# Altium schematic symbol library MCx.SchLib: 66 symbols (part 1 of 3)
Pins are listed as number, name and electrical type; pins without a type are passive.

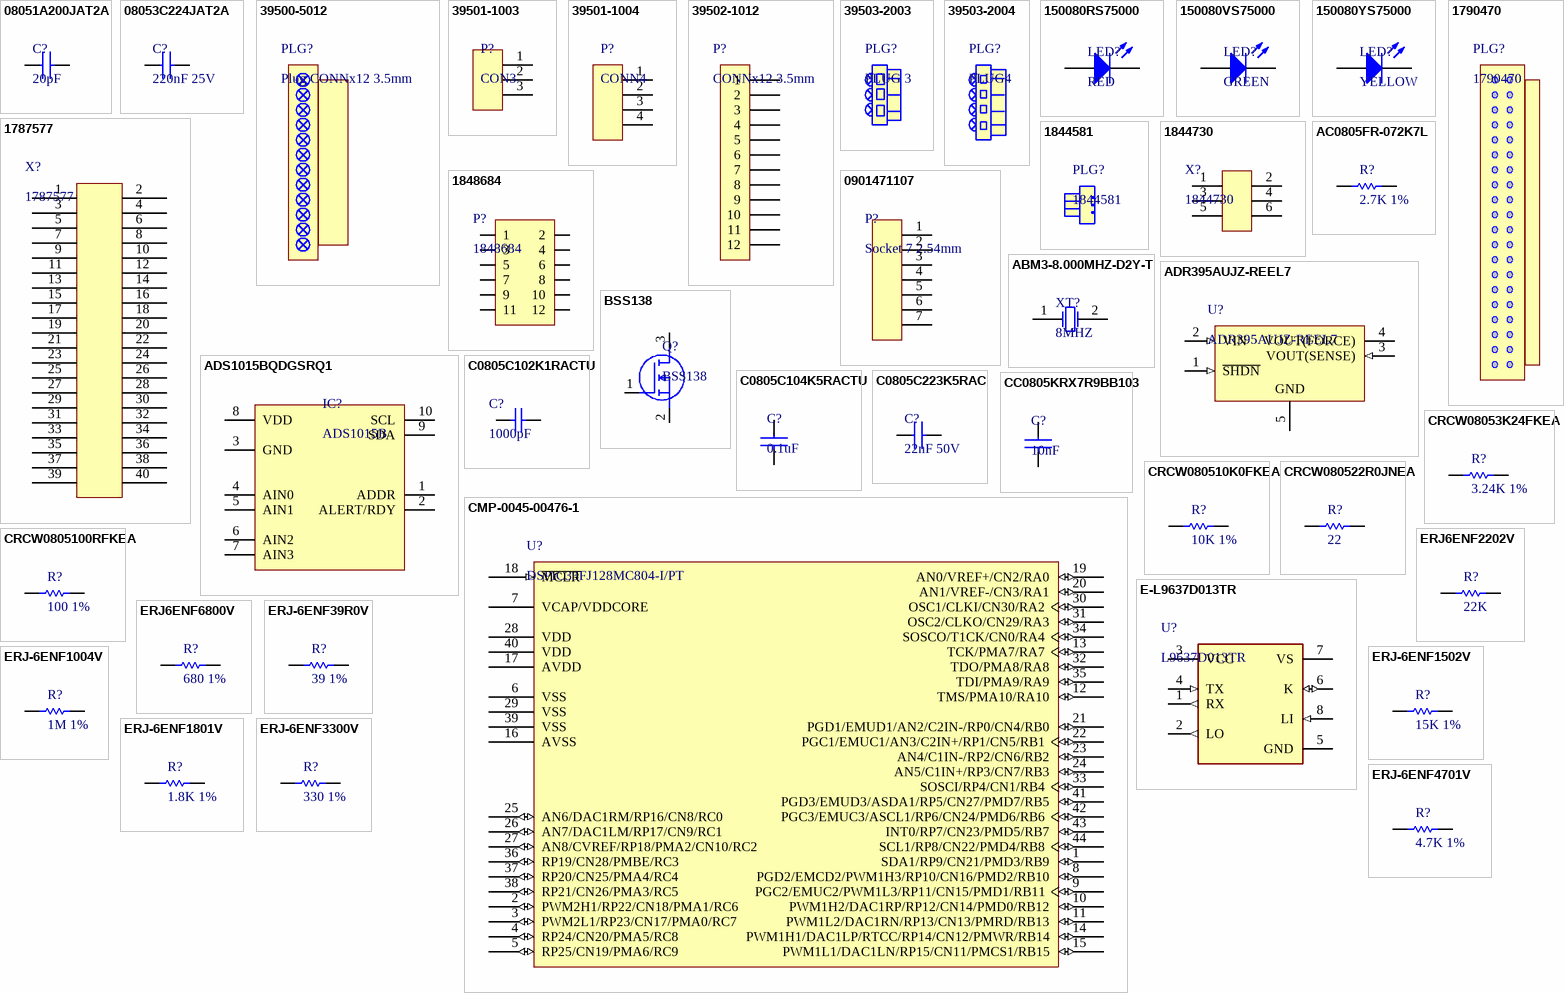
[diagram p0: symbols 08051A200JAT2A to ERJ-6ENF4701V]

## 08051A200JAT2A
designator C?, comment 20pF
AVX - 08051A200JAT2A - CERAMIC CAPACITOR 20PF 100V, C0G, 5%, 0805, FULL REEL; Manufacturer: Kyocera AVX; Dissipation Factor: 10%; Temperature Coefficient: 30ppm/°C; Supplier 1: Mouser; Supplier Part Number 1: 581-08051A200JAT2A; Manufacturer Part Number: 08051A200JAT2A; RoHS: Yes; Category: Ceramic Capacitors; Stock 1: 29281; Pricing 1: 1=0.29000, 10=0.19900, 100=0.10000, 500=0.06900, 1000=0.06100, 2000=0.06100 (USD); Mount: Surface Mount,PCB; Case/Package: 0805; Number of Pins: 2; Case Code (Imperial): 0805; Case Code (Metric): 2012; Contact Plating: Tin,Matte; Min Operating Temperature: -55°C; Max Operating Temperature: 125°C; Capacitance: 20pF; Packaging: Tape and Reel; Voltage Rating: 100V; Package Quantity: 1; Tolerance: 5%; Voltage Rating (DC): 100V; Dielectric: C0G; Termination: SMD/SMT; Voltage: 100V; Length: 2.01mm; Height: 940um; Width: 1.25mm; Thickness: 0.037inch; Depth: 1.25mm; Radiation Hardening: No; Lead Free: Lead Free; REACH SVHC: No SVHC; ComponentLink1URL: https://datasheet.ciiva.com/11787/0900766b80def0e2-11787350.pdf?src-supplier=RSComponents; ComponentLink1Description: https://datasheet.ciiva.com/11787/0900766b80def0e2-11787350.pdf?src-supplier=RSComponents; ComponentLink2URL: https://datasheet.ciiva.com/26927/getdatasheetpartid-58326-26927326.pdf?src-supplier=Verical; ComponentLink2Description: https://datasheet.ciiva.com/26927/getdatasheetpartid-58326-26927326.pdf?src-supplier=Verical; ComponentLink3URL: https://datasheet.ciiva.com/11536/ccog-11536935.pdf?src-supplier=Avnet; ComponentLink3Description: https://datasheet.ciiva.com/11536/ccog-11536935.pdf?src-supplier=Avnet; ComponentLink4URL: https://datasheet.ciiva.com/151/ccog-151320.pdf?src-supplier=Digi-Key; ComponentLink4Description: https://datasheet.ciiva.com/151/ccog-151320.pdf?src-supplier=Digi-Key; ComponentLink5URL: https://datasheet.ciiva.com/151/ccog-151321.pdf?src-supplier=Digi-Key; ComponentLink5Description: https://datasheet.ciiva.com/151/ccog-151321.pdf?src-supplier=Digi-Key; ComponentLink6URL: https://datasheet.ciiva.com/28535/759117-28535065.pdf?src-supplier=Element14; ComponentLink6Description: https://datasheet.ciiva.com/28535/759117-28535065.pdf?src-supplier=Element14; ComponentLink7URL: https://datasheet.ciiva.com/151/ccog-151322.pdf?src-supplier=Digi-Key; ComponentLink7Description: https://datasheet.ciiva.com/151/ccog-151322.pdf?src-supplier=Digi-Key; ComponentLink8URL: https://datasheet.ciiva.com/14606/70001039-14606635.pdf?src-supplier=Allied+Electronics; ComponentLink8Description: https://datasheet.ciiva.com/14606/70001039-14606635.pdf?src-supplier=Allied+Electronics; ComponentLink9URL: https://datasheet.ciiva.com/14595/70001039-14595420.pdf?src-supplier=Allied+Electronics; ComponentLink9Description: https://datasheet.ciiva.com/14595/70001039-14595420.pdf?src-supplier=Allied+Electronics; ComponentLink10URL: https://datasheet.ciiva.com/2987/ccog-2987917.pdf?src-supplier=Avnet; ComponentLink10Description: https://datasheet.ciiva.com/2987/ccog-2987917.pdf?src-supplier=Avnet; ComponentLink11URL: https://datasheet.ciiva.com/17492/ccog-17492879.pdf?src-supplier=Avnet+Europe; ComponentLink11Description: https://datasheet.ciiva.com/17492/ccog-17492879.pdf?src-supplier=Avnet+Europe
footprint C0805
pins: 1, 2

## 08053C224JAT2A
designator C?, comment 220nF 25V
AVX - 08053C224JAT2A - SMD Multilayer Ceramic Capacitor, 0.22 UF, 5%, X7R, 25 V, 0805 [2012 Metric] RoHS Compliant: Yes; Manufacturer: Kyocera AVX; Supplier 1: Mouser; Supplier Part Number 1: 581-08053C224JAT2A; Manufacturer Part Number: 08053C224JAT2A; RoHS: Yes; Category: Ceramic Capacitors; Stock 1: 712; Pricing 1: 1=0.28000, 10=0.19000, 100=0.09600, 500=0.09400, 1000=0.09400, 2000=0.09400 (USD); Mount: Surface Mount,PCB; Case/Package: 0805; Number of Pins: 2; Case Code (Imperial): 0805; Case Code (Metric): 2012; Dielectric Material: Ceramic; Contact Plating: Tin,Matte; Min Operating Temperature: -55°C; Max Operating Temperature: 125°C; Capacitance: 220nF; Tolerance: 5%; Packaging: Tape and Reel; Dielectric: X7R; Voltage Rating: 25V; Voltage Rating (DC): 25V; Termination: SMD/SMT; Package Quantity: 1; Voltage: 25V; Length: 2.01mm; Height: 1.4mm; Width: 1.25mm; Depth: 1.25mm; Thickness: 0.055inch; Radiation Hardening: No; REACH SVHC: No SVHC; Lead Free: Lead Free; ComponentLink1URL: https://datasheet.ciiva.com/5417/cx7r-218113-5417493.pdf?src-supplier=Mouser; ComponentLink1Description: https://datasheet.ciiva.com/5417/cx7r-218113-5417493.pdf?src-supplier=Mouser; ComponentLink2URL: https://datasheet.ciiva.com/16326/cx7r-16326599.pdf?src-supplier=Future+Electronics; ComponentLink2Description: https://datasheet.ciiva.com/16326/cx7r-16326599.pdf?src-supplier=Future+Electronics; ComponentLink3URL: https://datasheet.ciiva.com/162/cx7r-162344.pdf?src-supplier=Digi-Key; ComponentLink3Description: https://datasheet.ciiva.com/162/cx7r-162344.pdf?src-supplier=Digi-Key; ComponentLink4URL: https://datasheet.ciiva.com/162/cx7r-162345.pdf?src-supplier=Digi-Key; ComponentLink4Description: https://datasheet.ciiva.com/162/cx7r-162345.pdf?src-supplier=Digi-Key; ComponentLink5URL: https://datasheet.ciiva.com/162/cx7r-162346.pdf?src-supplier=Digi-Key; ComponentLink5Description: https://datasheet.ciiva.com/162/cx7r-162346.pdf?src-supplier=Digi-Key; ComponentLink6URL: https://datasheet.ciiva.com/17494/cx7r-17494874.pdf?src-supplier=Avnet+Europe; ComponentLink6Description: https://datasheet.ciiva.com/17494/cx7r-17494874.pdf?src-supplier=Avnet+Europe; ComponentLink7URL: https://datasheet.ciiva.com/14594/70001075-14594669.pdf?src-supplier=Allied+Electronics; ComponentLink7Description: https://datasheet.ciiva.com/14594/70001075-14594669.pdf?src-supplier=Allied+Electronics; ComponentLink8URL: https://datasheet.ciiva.com/7811/cx7r-7811999.pdf?src-supplier=Element14; ComponentLink8Description: https://datasheet.ciiva.com/7811/cx7r-7811999.pdf?src-supplier=Element14
footprint C0805
pins: 1, 2

## 39500-5012
designator PLG?, comment Plug CONNx12 3.5mm  (mechanical)
Pluggable Terminal Blocks 3.5MM EURO PLUG RA G RO PLUG RA GRN 12CKT; Manufacturer: Molex; Manufacturer Part Number: 39500-5012; Current Rating: 8A; Voltage Rating: 300V; Wire Gauge (Max): 16AWG; Wire Gauge (Min): 24AWG; Supplier 1: Mouser; Supplier Part Number 1: 538-39500-5012; RoHS: Yes; Category: Terminal Blocks; Stock 1: 720; Pricing 1: 1=3.85000, 10=3.40000, 25=2.85000, 100=2.67000, 250=2.46000, 500=2.22000 (USD); Packaging: Bulk; Package Quantity: 320; ComponentLink1URL: https://datasheet.ciiva.com/5198/0395005012-terminal-blocks-163596-5198853.pdf?src-supplier=Mouser; ComponentLink1Description: https://datasheet.ciiva.com/5198/0395005012-terminal-blocks-163596-5198853.pdf?src-supplier=Mouser

## 39501-1003
designator P?, comment CON3
TERM BLOCK HDR 3POS VERT 3.5MM; Manufacturer: Molex; Manufacturer Part Number: 39501-1003; Number of Positions Per Level: 3; Number of Levels: 1; Current: 8A; Voltage: 300V; Gender: Male; Connector Type: Terminal Block; Wire Gauge (Max): 2AWG; Wire Gauge (Min): 20AWG; Supplier 1: Mouser; Supplier Part Number 1: 538-39501-1003; RoHS: Yes; Category: Terminal Blocks; Stock 1: 4825; Pricing 1: 1=0.78000, 10=0.67600, 100=0.59400, 500=0.48500, 1000=0.43200, 2500=0.41900 (USD); Mount: Through Hole; Contact Material: Brass; Color: Black; Housing Color: Black; Contact Plating: Tin; Housing Material: Nylon; Min Operating Temperature: -40°C; Max Operating Temperature: 105°C; Packaging: Bulk; Number of Rows: 1; Termination: Solder; Number of Positions: 3; Orientation: Vertical; Voltage Rating: 300V; Package Quantity: 1; Current Rating: 8A; Max Voltage Rating (AC): 300V; Number of Circuits: 3; Number of Contacts: 3; Length: 11.9mm; Pitch: 3.5mm; Width: 6.9mm; ELV: Compliant; Lead Free: Lead Free; Flammability Rating: UL94 V-0; REACH SVHC: Unknown; Halogen Free: Low Halogen; ComponentLink1URL: https://datasheet.ciiva.com/796/395011002-sd-796514.pdf?src-supplier=Digi-Key; ComponentLink1Description: https://datasheet.ciiva.com/796/395011002-sd-796514.pdf?src-supplier=Digi-Key
footprint 39501-1003 (Header 3x3.5mm Molex)
pins: 1, 2, 3

## 39501-1004
designator P?, comment CONN4
3.50mm Pitch Eurostyle Vertical PCB Header, 4 Circuits; Manufacturer: Molex; Manufacturer Part Number: 39501-1004; Gender: Male; Number of Positions: 4; Max Voltage Rating (AC): 300V; Current Rating: 8A; Pitch: 3.5mm; Wire Gauge (Max): 2AWG; Wire Gauge (Min): 20AWG; Supplier 1: Mouser; Supplier Part Number 1: 538-39501-1004; RoHS: Yes; Category: Headers and Wire Housings; Stock 1: 8482; Pricing 1: 1=1.07000, 10=0.90800, 100=0.77600, 500=0.66500, 1000=0.59200, 2500=0.52800 (USD); Mount: Through Hole; Contact Material: Brass; Housing Color: Black; Color: Black; Housing Material: Nylon; Min Operating Temperature: -40°C; Max Operating Temperature: 105°C; Number of Rows: 1; Orientation: Vertical; Termination: Through Hole; Packaging: Bulk; Number of Contacts: 4; Number of Circuits: 4; Package Quantity: 960; Voltage Rating: 300V; Length: 15.4mm; Width: 6.9mm; REACH SVHC: No SVHC; ELV: Compliant; Halogen Free: Low Halogen; Lead Free: Lead Free; Flammability Rating: UL94 V-0; ComponentLink1URL: https://datasheet.ciiva.com/5191/0395011004-terminal-blocks-163561-5191496.pdf?src-supplier=Mouser; ComponentLink1Description: https://datasheet.ciiva.com/5191/0395011004-terminal-blocks-163561-5191496.pdf?src-supplier=Mouser; ComponentLink2URL: https://datasheet.ciiva.com/23766/395011010-sd-23766120.pdf?src-supplier=Newark; ComponentLink2Description: https://datasheet.ciiva.com/23766/395011010-sd-23766120.pdf?src-supplier=Newark
footprint 39501-1004 (Header 3x3.5mm Molex)
pins: 1, 2, 3, 4

## 39502-1012
designator P?, comment CONNx12 3.5mm
Conn Wire to Board HDR 12 POS 3.5mm Solder RA Thru-Hole; Manufacturer: Molex; Manufacturer Part Number: 39502-1012; Number of Positions: 12; Contact Resistance: 8mR; Insulation Resistance: 500MR; Current Rating: 8A; Voltage Rating: 300V; Supplier 1: Mouser; Supplier Part Number 1: 538-39502-1012; RoHS: Yes; Category: Headers and Wire Housings; Stock 1: 1266; Pricing 1: 1=2.75000, 10=2.40000, 100=2.12000, 250=2.07000, 500=1.57000, 1000=1.57000 (USD); Mount: Through Hole; Housing Material: Polyamide; Contact Material: Brass; Housing Color: Black; Color: Black; Contact Plating: Tin; Min Operating Temperature: -40°C; Max Operating Temperature: 105°C; Termination: Solder; Number of Contacts: 12; Orientation: Right Angle; Packaging: Bulk; Number of Rows: 1; Number of Circuits: 12; Package Quantity: 320; Length: 43.4mm; Height: 6.9mm; Pitch: 3.5mm; Width: 9.2mm; Flammability Rating: UL94 V-0; REACH SVHC: No SVHC; ELV: Compliant; Halogen Free: Low Halogen; Lead Free: Lead Free; ComponentLink1URL: https://datasheet.ciiva.com/5190/0395021012-terminal-blocks-163788-5190768.pdf?src-supplier=Mouser; ComponentLink1Description: https://datasheet.ciiva.com/5190/0395021012-terminal-blocks-163788-5190768.pdf?src-supplier=Mouser
footprint 39502-1012 H
pins: 1, 2, 3, 4, 5, 6, 7, 8, 9, 10, 11, 12

## 39503-2003
designator PLG?, comment PLUG 3  (mechanical)
Pluggable Terminal Blocks 3.50MM EURO PLUG VER UG VERT RWE BLK 3CKT; Manufacturer: Molex; Manufacturer Part Number: 39503-2003; Number of Positions: 3; Voltage Rating: 300V; Current Rating: 8A; Wire Gauge (Max): 16AWG; Wire Gauge (Min): 24AWG; Pitch: 3.5mm; Supplier 1: Mouser; Supplier Part Number 1: 538-39503-2003; RoHS: Yes; Category: Terminal Blocks; Stock 1: 602; Pricing 1: 1=1.13000, 10=0.67700, 100=0.56900, 500=0.53900, 1000=0.48000, 2500=0.42800 (USD); Mount: Cable; Min Operating Temperature: -40°C; Max Operating Temperature: 105°C; Package Quantity: 1280; Orientation: Straight; Number of Rows: 1; Number of Contacts: 3; Number of Circuits: 3; Termination: Screw; REACH SVHC: No SVHC; Halogen Free: Low Halogen; ComponentLink1URL: https://datasheet.ciiva.com/5191/0395032003-terminal-blocks-141279-5191499.pdf?src-supplier=Mouser; ComponentLink1Description: https://datasheet.ciiva.com/5191/0395032003-terminal-blocks-141279-5191499.pdf?src-supplier=Mouser

## 39503-2004
designator PLG?, comment PLUG4  (mechanical)
Conn Eurostyle Block F 4 POS 3.5mm Screw ST Cable Mount 8A/Contact; Manufacturer: Molex; Manufacturer Part Number: 0395032004; Number of Positions: 4; Number of Levels: 1; Current: 8A; Voltage: 300V; Wire Gauge (Max): 30AWG; Pitch: 0.138inch; Wire Gauge (Min): 16AWG; Supplier 1: Mouser; Supplier Part Number 1: 538-39503-2004; RoHS: Yes; Category: Terminal Blocks; Stock 1: 862; Pricing 1: 1=1.59000, 10=0.97100, 100=0.81600, 500=0.76500, 1000=0.68200, 2500=0.61400 (USD); Mount: Free Hanging,Cable; Color: Black; Contact Plating: Tin; Min Operating Temperature: -40°C; Max Operating Temperature: 115°C; Orientation: Straight; Packaging: Bulk; Number of Rows: 1; Number of Positions Per Level: 4; Package Quantity: 960; Termination: Screw; Number of Contacts: 4; Number of Circuits: 4; ComponentLink1URL: https://datasheet.ciiva.com/9387/0395032004-terminal-blocks-9387040.pdf?src-supplier=Avnet; ComponentLink1Description: https://datasheet.ciiva.com/9387/0395032004-terminal-blocks-9387040.pdf?src-supplier=Avnet; ComponentLink2URL: https://datasheet.ciiva.com/808/395032002-sd-808849.pdf?src-supplier=Digi-Key; ComponentLink2Description: https://datasheet.ciiva.com/808/395032002-sd-808849.pdf?src-supplier=Digi-Key

## 150080RS75000
designator LED?, comment RED
LED RED CLEAR 0805 SMD; Manufacturer: Wurth Electronics; Manufacturer Part Number: 150080RS75000; Luminous Intensity: 150mcd; Viewing Angle: 140°; Forward Voltage: 2V; Wavelength: 625nm; Lens Style: Clear,Rectangular; Forward Current: 30mA; Test Current: 20mA; Supplier 1: Mouser; Supplier Part Number 1: 710-150080RS75000; RoHS: Yes; Category: LEDs; Stock 1: 2434; Pricing 1: 1=0.18000, 10=0.17500, 25=0.17400, 50=0.16200, 100=0.13900, 250=0.12300 (USD); Mount: Surface Mount; Case/Package: 0805; Color: Red; Case Code (Metric): 2012; Case Code (Imperial): 0805; Min Operating Temperature: -40°C; Max Operating Temperature: 85°C; Package Quantity: 4000; Packaging: Tape and Reel; Dominant Wavelength: 625nm; Length: 2mm; Height: 0.7mm; Width: 1.25mm; REACH SVHC: Unknown; ComponentLink1URL: https://datasheet.ciiva.com/22656/150080rs75000-22656961.pdf?src-supplier=Element14; ComponentLink1Description: https://datasheet.ciiva.com/22656/150080rs75000-22656961.pdf?src-supplier=Element14; ComponentLink2URL: https://datasheet.ciiva.com/29279/759435-da-01-en-chipled-0805-w-kl-rot-150080rs75000-29279032.pdf?src-supplier=Conrad; ComponentLink2Description: https://datasheet.ciiva.com/29279/759435-da-01-en-chipled-0805-w-kl-rot-150080rs75000-29279032.pdf?src-supplier=Conrad
footprint LED0805
pins: 1 K, 2 A

## 150080VS75000
designator LED?, comment GREEN
LED GREEN CLEAR 0805 SMD; Manufacturer: Wurth Electronics; Manufacturer Part Number: 150080VS75000; Forward Voltage: 2V; Lens Style: Clear,Rectangular; Luminous Intensity: 40mcd; Forward Current: 30mA; Viewing Angle: 140°; Wavelength: 570nm; Test Current: 20mA; Supplier 1: Mouser; Supplier Part Number 1: 710-150080VS75000; RoHS: Yes; Category: LEDs; Stock 1: 16574; Pricing 1: 1=0.18000, 10=0.17500, 25=0.17400, 50=0.16200, 100=0.13900, 250=0.12300 (USD); Mount: Surface Mount; Case/Package: 0805; Color: Green; Case Code (Metric): 2012; Case Code (Imperial): 0805; Min Operating Temperature: -40°C; Max Operating Temperature: 85°C; Packaging: Tape and Reel; Dominant Wavelength: 570nm; Package Quantity: 4000; Length: 2mm; Height: 0.7mm; Width: 1.25mm; REACH SVHC: Unknown; ComponentLink1URL: https://datasheet.ciiva.com/22656/150080vs75000-22656966.pdf?src-supplier=Element14; ComponentLink1Description: https://datasheet.ciiva.com/22656/150080vs75000-22656966.pdf?src-supplier=Element14; ComponentLink2URL: https://datasheet.ciiva.com/29279/759437-da-01-en-chipled-0805-w-kl-h-gruen-150080vs7500-29279047.pdf?src-supplier=Conrad; ComponentLink2Description: https://datasheet.ciiva.com/29279/759437-da-01-en-chipled-0805-w-kl-h-gruen-150080vs7500-29279047.pdf?src-supplier=Conrad; ComponentLink3URL: https://datasheet.ciiva.com/29563/150080vs75000-29563018.pdf?src-supplier=Digi-Key; ComponentLink3Description: https://datasheet.ciiva.com/29563/150080vs75000-29563018.pdf?src-supplier=Digi-Key
footprint LED0805
pins: 1 K, 2 A

## 150080YS75000
designator LED?, comment YELLOW
LED YELLOW CLEAR 0805 SMD; Manufacturer: Wurth Electronics; Manufacturer Part Number: 150080YS75000; Forward Voltage: 2V; Luminous Intensity: 120mcd; Viewing Angle: 140°; Forward Current: 30mA; Lens Style: Clear,Rectangular; Dominant Wavelength: 590nm; Test Current: 20mA; Supplier 1: Mouser; Supplier Part Number 1: 710-150080YS75000; RoHS: Yes; Category: LEDs; Stock 1: 18730; Pricing 1: 1=0.18000, 10=0.17400, 25=0.17400, 50=0.16200, 100=0.13900, 250=0.12400 (USD); Mount: Surface Mount; Case/Package: 0805; Color: Yellow; Case Code (Metric): 2012; Case Code (Imperial): 0805; Min Operating Temperature: -40°C; Max Operating Temperature: 85°C; Packaging: Tape and Reel; Wavelength: 590nm; Package Quantity: 4000; Length: 2mm; Height: 0.7mm; Width: 1.25mm; REACH SVHC: Unknown; ComponentLink1URL: https://datasheet.ciiva.com/23843/150080ys75000-23843256.pdf?src-supplier=Newark; ComponentLink1Description: https://datasheet.ciiva.com/23843/150080ys75000-23843256.pdf?src-supplier=Newark; ComponentLink2URL: https://datasheet.ciiva.com/29279/759438-da-01-en-chipled-0805-w-kl-gelb-150080ys75000-29279034.pdf?src-supplier=Conrad; ComponentLink2Description: https://datasheet.ciiva.com/29279/759438-da-01-en-chipled-0805-w-kl-gelb-150080ys75000-29279034.pdf?src-supplier=Conrad; ComponentLink3URL: https://datasheet.ciiva.com/22656/1911353-22656971.pdf?src-supplier=Element14; ComponentLink3Description: https://datasheet.ciiva.com/22656/1911353-22656971.pdf?src-supplier=Element14; ComponentLink4URL: https://datasheet.ciiva.com/29563/150080ys75000-29563019.pdf?src-supplier=Digi-Key; ComponentLink4Description: https://datasheet.ciiva.com/29563/150080ys75000-29563019.pdf?src-supplier=Digi-Key; ComponentLink5URL: https://datasheet.ciiva.com/29563/150080ys75000-29563020.pdf?src-supplier=Digi-Key; ComponentLink5Description: https://datasheet.ciiva.com/29563/150080ys75000-29563020.pdf?src-supplier=Digi-Key; ComponentLink6URL: https://datasheet.ciiva.com/29563/150080ys75000-29563021.pdf?src-supplier=Digi-Key; ComponentLink6Description: https://datasheet.ciiva.com/29563/150080ys75000-29563021.pdf?src-supplier=Digi-Key
footprint LED0805
pins: 1 K, 2 A

## 1787577
designator X?
40 pins PCB header Phoenix Contact 1787577 Contact spacing: 3.50 mm; Current Rating: 8A; Connector Type: Plug; Number of Positions: 20; Number of Levels: 2; Voltage: 150V; Voltage Rating: 160V; Pitch: 0.138inch; Supplier 1: Mouser; Manufacturer: Phoenix Contact; Manufacturer Part Number: 1787577; RoHS: Yes; Category: Terminal Blocks; Stock 1: 89; Pricing 1: 1=14.81000, 10=14.41000, 25=14.04000, 50=13.46000, 100=12.39000, 250=11.45000 (USD); Mount: Through Hole; Contact Plating: Tin; Color: Black; Contact Material: Tin; Housing Color: Black; Package Quantity: 50; Packaging: Bulk; Number of Rows: 2; Termination: Solder; Number of Positions Per Level: 20; Current: 8A; Orientation: Vertical; Length: 10.6mm; Height: 12mm; Width: 77mm; ComponentLink1URL: https://datasheet.ciiva.com/817/1787577-817976.pdf?src-supplier=Digi-Key; ComponentLink1Description: https://datasheet.ciiva.com/817/1787577-817976.pdf?src-supplier=Digi-Key; ComponentLink2URL: https://datasheet.ciiva.com/29212/772230-da-01-de-grundgehaeuse-1787577-50-st-29212411.pdf?src-supplier=Conrad; ComponentLink2Description: https://datasheet.ciiva.com/29212/772230-da-01-de-grundgehaeuse-1787577-50-st-29212411.pdf?src-supplier=Conrad; Supplier Part Number 1: 651-1787577
footprint DMCV 1,5/20-G1F-3,5-LR P20THR (1787577  footprint)
pins: 1, 2, 3, 4, 5, 6, 7, 8, 9, 10, 11, 12, 13, 14, 15, 16, 17, 18, 19, 20, 21, 22, 23, 24, 25, 26, 27, 28, 29, 30, 31, 32, 33, 34, 35, 36, 37, 38, 39, 40

## 1790470
designator PLG?  (mechanical)
40 position; 8A; 250V; Push-in;Terminal block; PCB; Plug; Female Sockets;; Manufacturer: Phoenix Contact; Number of Positions: 40; Number of Positions Per Level: 20; Number of Levels: 2; Voltage: 150V; Voltage Rating: 160V; Connector Type: Screw; Pitch: 0.138inch; Wire Gauge (Max): 16AWG; Wire Gauge (Min): 24AWG; Supplier 1: Mouser; Supplier Part Number 1: 651-1790470; Manufacturer Part Number: 1790470; RoHS: Yes; Category: Terminal Blocks; Stock 1: 94; Pricing 1: 1=32.15000, 10=31.27000, 25=30.47000, 50=29.22000, 100=26.89000, 250=24.84000 (USD); Mount: Free Hanging; Color: Green; Contact Plating: Tin; Housing Color: Green; Housing Material: Plastic; Package Quantity: 1; Termination: Screwless; Current: 8A; Current Rating: 8A; Packaging: Bulk; ComponentLink1URL: https://datasheet.ciiva.com/15056/1790470-15056229.pdf?src-supplier=Digi-Key; ComponentLink1Description: https://datasheet.ciiva.com/15056/1790470-15056229.pdf?src-supplier=Digi-Key; ComponentLink2URL: https://datasheet.ciiva.com/14913/1790470-14913096.pdf?src-supplier=Arrow+Electronics; ComponentLink2Description: https://datasheet.ciiva.com/14913/1790470-14913096.pdf?src-supplier=Arrow+Electronics; ComponentLink3URL: https://datasheet.ciiva.com/818/1790470-818583.pdf?src-supplier=Digi-Key; ComponentLink3Description: https://datasheet.ciiva.com/818/1790470-818583.pdf?src-supplier=Digi-Key

## 1844581
designator PLG?  (mechanical)
Terminal block; plug; 6 positions; 0.100"(2.54mm) pitch; Screwless; 6A; 150V; Black; Manufacturer: Phoenix Contact; Number of Positions: 6; Number of Positions Per Level: 3; Number of Levels: 2; Pitch: 0.1inch; Wire Gauge (Max): 26AWG; Wire Gauge (Min): 20AWG; Supplier 1: Mouser; Supplier Part Number 1: 651-1844581; Manufacturer Part Number: 1844581; RoHS: Yes; Category: Terminal Blocks; Stock 1: 365; Pricing 1: 1=5.22000, 10=4.99000, 25=4.92000, 50=4.85000, 100=4.54000, 250=4.17000, 500=3.85000, 1000=3.67000, 2500=3.45000 (USD); Mount: Free Hanging; Number of Pins: 6; Color: Black; Contact Plating: Gold; Housing Color: Black; Packaging: Bulk; Termination: Screwless; Current: 6A; Voltage: 150V; ComponentLink1URL: https://media.digikey.com/pdf/Data%20Sheets/Phoenix%20Contact%20PDFs/1844581.pdf?src-supplier=Digi-Key; ComponentLink1Description: https://media.digikey.com/pdf/Data%20Sheets/Phoenix%20Contact%20PDFs/1844581.pdf?src-supplier=Digi-Key

## 1844730
designator X?
Terminal block; Header; Male Pins; (4 Side); 6 pos; 0.100"(2.54mm) pitch; 6A; 150V; Manufacturer: Phoenix Contact; Number of Positions: 6; Number of Positions Per Level: 3; Number of Levels: 2; Supplier 1: Mouser; Supplier Part Number 1: 651-1844730; Manufacturer Part Number: 1844730; RoHS: No; Category: Terminal Blocks; Stock 1: 975; Pricing 1: 1=3.31000, 10=3.17000, 50=3.03000, 100=2.95000, 250=2.75000, 500=2.54000 (USD); Mount: Through Hole; Number of Pins: 6; Color: Black; Contact Plating: Gold; Packaging: Tape and Reel; Termination: Solder; Current: 6A; Voltage: 150V; ComponentLink1URL: https://media.digikey.com/pdf/Data%20Sheets/Phoenix%20Contact%20PDFs/1844730.pdf?src-supplier=Digi-Key; ComponentLink1Description: https://media.digikey.com/pdf/Data%20Sheets/Phoenix%20Contact%20PDFs/1844730.pdf?src-supplier=Digi-Key
footprint DMC 0,5/ 3-G1- 2,54 P20THR R24 (Pluggable terminal bolc 1844730)
pins: 1, 2, 3, 4, 5, 6

## 1848684
designator P?
Conn PC Terminal Block PL 6 POS 3.5mm SKEDD ST Thru-Hole 8A; Manufacturer: Phoenix Contact; Number of Levels: 2; Number of Positions Per Level: 6; Voltage: 300V; Wire Gauge (Max): 24AWG; Wire Gauge (Min): 16AWG; Supplier 1: Mouser; Supplier Part Number 1: 651-1848684; Manufacturer Part Number: 1848684; RoHS: No; Category: Terminal Blocks; Stock 1: 94; Pricing 1: 1=11.37000, 10=10.87000, 25=10.72000, 50=10.58000, 100=9.88000, 250=9.09000, 500=8.40000, 1000=8.01000, 2500=7.51000 (USD); Color: Green; Contact Plating: Tin; Housing Material: Nylon; Packaging: Bulk; Current: 8A; Termination: Screwless; ComponentLink1URL: https://media.digikey.com/pdf/Data%20Sheets/Phoenix%20Contact%20PDFs/1848684_Ds.pdf?src-supplier=Digi-Key; ComponentLink1Description: https://media.digikey.com/pdf/Data%20Sheets/Phoenix%20Contact%20PDFs/1848684_Ds.pdf?src-supplier=Digi-Key
footprint SDDC_1.5_6_PV_3.5
pins: 1, 2, 3, 4, 5, 6, 7, 8, 9, 10, 11, 12

## 0901471107
designator P?, comment Socket 7 2.54mm
Conn Socket Strip F 7 POS 2.54mm Solder ST Thru-Hole C-Grid® Tube; Manufacturer: Molex; Manufacturer Part Number: 0901471107; Number of Positions: 7; Connector Type: Receptacle,Socket; Pitch: 0.1inch; Supplier 1: Mouser; Supplier Part Number 1: 538-90147-1107; RoHS: Yes; Category: Headers and Wire Housings; Stock 1: 1611; Pricing 1: 1=1.89000, 10=1.69000, 100=1.47000, 250=1.33000, 500=1.22000, 1000=0.98000 (USD); Mount: Through Hole; Contact Plating: Tin; Contact Material: Bronze; Housing Material: Polyester; Color: Black; Housing Color: Black; Min Operating Temperature: -55°C; Max Operating Temperature: 105°C; Number of Rows: 1; Packaging: Rail/Tube; Package Quantity: 2400; Termination: Solder; Number of Contacts: 7; Orientation: Straight; Length: 17.78mm; Depth: 2.54mm; ComponentLink1URL: https://datasheet.ciiva.com/2961/901471102-sd-2961714.pdf?src-supplier=Digi-Key; ComponentLink1Description: https://datasheet.ciiva.com/2961/901471102-sd-2961714.pdf?src-supplier=Digi-Key
footprint HEADER 7Pololu-G2 18v15 (HEADER 7 FOR Pololu Motor Controller  G2 18V15)
pins: 1, 2, 3, 4, 5, 6, 7

## ABM3-8.000MHZ-D2Y-T
designator XT?, comment 8MHZ
ABRACON - ABM3-8.000MHZ-D2Y-T - Crystal, 8 MHz, SMD, 5mm x 3.2mm, 30 ppm, 18 pF, 20 ppm, ABM3 Series; Tolerance: 20ppm; Load Capacitance: 18pF; ESR (Equivalent Series Resistance): 140R; Frequency Stability: 30ppm; Series Resistance: 500R; Supplier 1: Mouser; Supplier Part Number 1: 815-ABM3-8-D2Y-T; Manufacturer: Abracon; Manufacturer Part Number: ABM3-8.000MHZ-D2Y-T; RoHS: Yes; Category: Crystals; Pricing 1: 1=1.00000, 10=0.87800, 50=0.82500, 100=0.73600, 500=0.70200, 1000=0.51500 (USD); Mount: Surface Mount; Case/Package: CSMD; Number of Pins: 2; Min Operating Temperature: -40°C; Max Operating Temperature: 85°C; Frequency: 8MHz; Packaging: Tape and Reel; Package Quantity: 1000; Frequency Tolerance: 20ppm; Termination: SMD/SMT; Composition: Ceramic; Length: 5mm; Height: 0.051inch; Width: 3.2mm; Depth: 3.2mm; Radiation Hardening: No; REACH SVHC: Unknown; Lead Free: Lead Free; ComponentLink1URL: https://datasheet.ciiva.com/862/abm3-862465.pdf?src-supplier=Digi-Key; ComponentLink1Description: https://datasheet.ciiva.com/862/abm3-862465.pdf?src-supplier=Digi-Key
footprint ABRA-ABM3-2_V (SMD, 2-Leads, Body 5x3.2mm, Pitch 4.1mm)
pins: 1, 2

## AC0805FR-072K7L
designator R?, comment 2.7K 1%
RES SMD 2.7K OHM 1% 1/8W 0805; Manufacturer: Yageo; Manufacturer Part Number: AC0805FR-072K7L; Resistance: 2.7kR; Temperature Coefficient: 100ppm/°C; Power Rating: 125mW; Voltage Rating: 150V; Supplier 1: Mouser; Supplier Part Number 1: 603-AC0805FR-072K7L; RoHS: Yes; Category: Chip SMD Resistors; Stock 1: 3900; Pricing 1: 1=0.16000, 10=0.03700, 100=0.01300, 1000=0.01000, 5000=0.00600, 10000=0.00600 (USD); Case/Package: 0805; Case Code (Imperial): 0805; Case Code (Metric): 2012; Min Operating Temperature: -55°C; Max Operating Temperature: 155°C; Tolerance: 1%; Packaging: Tape and Reel; Composition: Thick Film; Number of Terminations: 2; Max Power Dissipation: 125mW; Termination: SMD/SMT; Features: Moisture Resistant,Automotive AEC-Q200; Length: 0.079inch; Height: 0.024inch; Width: 0.049inch; Lead Free: Lead Free; ComponentLink1URL: https://datasheet.ciiva.com/12656/pyu-ac-51-rohs-l-2-12656732.pdf?src-supplier=Mouser; ComponentLink1Description: https://datasheet.ciiva.com/12656/pyu-ac-51-rohs-l-2-12656732.pdf?src-supplier=Mouser
footprint R0805
pins: 1, 2

## ADR395AUJZ-REEL7
designator U?
ANALOG DEVICES - ADR395AUJZ-REEL7 - VOLTAGE REF, SERIES, 5V, TSOT-5; Max Output Current: 5mA; Max Input Voltage: 18V; Temperature Coefficient: 25ppm/°C; Tolerance: 0.12%; Operating Supply Current: 120uA; Output Type: Fixed; Supplier 1: Mouser; Supplier Part Number 1: 584-ADR395AUJZ-R7; Manufacturer: Analog Devices; Manufacturer Part Number: ADR395AUJZ-REEL7; RoHS: Yes; Category: Voltage References; Stock 1: 4513; Pricing 1: 1=2.26000, 10=2.03000, 25=1.92000, 100=1.54000, 250=1.34000, 500=1.30000 (USD); Case/Package: TSOT; Number of Pins: 5; Min Operating Temperature: -40°C; Max Operating Temperature: 125°C; Output Voltage: 5V; Packaging: Tape and Reel; Output Current: 5mA; Reference Type: Series; Min Output Voltage: 5V; Reference Voltage: 5V; Max Output Voltage: 5V; Radiation Hardening: No; REACH SVHC: No SVHC; Lead Free: Contains Lead; ComponentLink1URL: https://datasheet.ciiva.com/2008/adr391-392-395-2008665.pdf?src-supplier=Digi-Key; ComponentLink1Description: https://datasheet.ciiva.com/2008/adr391-392-395-2008665.pdf?src-supplier=Digi-Key; ComponentLink2URL: https://datasheet.ciiva.com/3237/adr391-392-395-3237061.pdf?src-supplier=Avnet; ComponentLink2Description: https://datasheet.ciiva.com/3237/adr391-392-395-3237061.pdf?src-supplier=Avnet; ComponentLink3URL: https://datasheet.ciiva.com/17218/adr391-392-395-17218677.pdf?src-supplier=Avnet+Europe; ComponentLink3Description: https://datasheet.ciiva.com/17218/adr391-392-395-17218677.pdf?src-supplier=Avnet+Europe; ComponentLink4URL: https://datasheet.ciiva.com/2008/adr391-392-395-2008663.pdf?src-supplier=Digi-Key; ComponentLink4Description: https://datasheet.ciiva.com/2008/adr391-392-395-2008663.pdf?src-supplier=Digi-Key; ComponentLink5URL: https://datasheet.ciiva.com/2008/adr391-392-395-2008664.pdf?src-supplier=Digi-Key; ComponentLink5Description: https://datasheet.ciiva.com/2008/adr391-392-395-2008664.pdf?src-supplier=Digi-Key
footprint ADI-UJ-5_M (SOT23, 5-Leads, Body 2.9x1.6mm, Pitch 0.95mm, IPC Low Density)
footprint ADI-UJ-5_L (SOT23, 5-Leads, Body 2.9x1.6mm, Pitch 0.95mm, IPC High Density)
footprint ADI-UJ-5_N (SOT23, 5-Leads, Body 2.9x1.6mm, Pitch 0.95mm, IPC Medium Density)
pins: 1 ~{SHDN} (in), 2 VIN (in), 3 VOUT(SENSE) (in), 4 VOUT(FORCE) (hiz), 5 GND (power)

## ADS1015BQDGSRQ1
designator IC?, comment ADS1015B
ADS1015B Automotive 12-Bit ADC; Manufacturer: Texas Instruments; Manufacturer Part Number: ADS1015BQDGSRQ1; Interface: I2C; Number of Inputs: 4; Supplier 1: Mouser; RoHS: No; Category: Analog to Digital Converters (ADCs); Stock 1: 3359; Pricing 1: 1=3.25000, 10=2.92000, 100=2.27000, 250=2.27000, 500=1.96000, 1000=1.63000, 2500=1.52000, 5000=1.48000 (USD); Min Operating Temperature: -40°C; Max Operating Temperature: 125°C; ComponentLink1URL: http://www.ti.com/lit/ds/symlink/ads1013-q1.pdf?src-supplier=Digi-Key; ComponentLink1Description: http://www.ti.com/lit/ds/symlink/ads1013-q1.pdf?src-supplier=Digi-Key; ComponentLink2URL: http://www.ti.com/general/docs/lit/getliterature.tsp?genericPartNumber=ADS1015-Q1&fileType=pdf&src-supplier=Farnell; ComponentLink2Description: http://www.ti.com/general/docs/lit/getliterature.tsp?genericPartNumber=ADS1015-Q1&fileType=pdf&src-supplier=Farnell; Supplier Part Number 1: 595-ADS1015BQDGSRQ1
footprint SOP50P490X110-10N
pins: 1 ADDR, 2 ALERT/RDY, 3 GND, 4 AIN0, 5 AIN1, 6 AIN2, 7 AIN3, 8 VDD, 9 SDA, 10 SCL

## BSS138
designator Q?
MOSFET N-CH 50V 220MA SOT-23; Manufacturer: ON Semiconductor / Fairchild; Element Configuration: Single; Rds On Max: 3.5R; Input Capacitance: 27pF; Max Power Dissipation: 360mW; Rise Time: 9ns; Turn-Off Delay Time: 20ns; Gate to Source Voltage (Vgs): 20V; Turn-On Delay Time: 2.5ns; Number of Elements: 1; Threshold Voltage: 1.3V; On-State Resistance: 6R; Supplier 1: Mouser; Manufacturer Part Number: BSS138; RoHS: Yes; Category: MOSFETs; Stock 1: 736044; Pricing 1: 1=0.26000, 10=0.17800, 100=0.07400, 1000=0.05000, 3000=0.03900, 9000=0.03300, 24000=0.03100, 45000=0.02900 (USD); Mount: Surface Mount; Case/Package: SOT-23; Number of Pins: 3; Weight: 0.03g; Contact Plating: Tin,Matte; Min Operating Temperature: -55°C; Max Operating Temperature: 150°C; Packaging: Tape and Reel; Continuous Drain Current (ID): 220mA; Drain to Source Voltage (Vdss): 50V; Drain to Source Breakdown Voltage: 50V; Fall Time: 9ns; Drain to Source Resistance: 3.5R; Package Quantity: 1; Power Dissipation: 360mW; Voltage Rating (DC): 50V; Current Rating: 220mA; Nominal Vgs: 1.3V; Dual Supply Voltage: 50V; Termination: SMD/SMT; Length: 2.92mm; Height: 0.93mm; Width: 1.3mm; Radiation Hardening: No; Lead Free: Lead Free; REACH SVHC: No SVHC; ComponentLink1URL: https://datasheet.ciiva.com/931/bss138-931776.pdf?src-supplier=Digi-Key; ComponentLink1Description: https://datasheet.ciiva.com/931/bss138-931776.pdf?src-supplier=Digi-Key; ComponentLink2URL: https://datasheet.ciiva.com/1190/193736-1190130.pdf?src-supplier=Element14; ComponentLink2Description: https://datasheet.ciiva.com/1190/193736-1190130.pdf?src-supplier=Element14; ComponentLink3URL: https://datasheet.ciiva.com/27050/784896-27050043.pdf?src-supplier=Jameco; ComponentLink3Description: https://datasheet.ciiva.com/27050/784896-27050043.pdf?src-supplier=Jameco; ComponentLink4URL: https://datasheet.ciiva.com/1190/193736-1190131.pdf?src-supplier=Element14; ComponentLink4Description: https://datasheet.ciiva.com/1190/193736-1190131.pdf?src-supplier=Element14; ComponentLink5URL: https://datasheet.ciiva.com/1254/193736-1254983.pdf?src-supplier=Newark; ComponentLink5Description: https://datasheet.ciiva.com/1254/193736-1254983.pdf?src-supplier=Newark; ComponentLink6URL: https://datasheet.ciiva.com/16834/bss138-16834843.pdf?src-supplier=Future+Electronics; ComponentLink6Description: https://datasheet.ciiva.com/16834/bss138-16834843.pdf?src-supplier=Future+Electronics; ComponentLink7URL: https://datasheet.ciiva.com/26229/bss138-26229007.pdf?src-supplier=Avnet+Europe; ComponentLink7Description: https://datasheet.ciiva.com/26229/bss138-26229007.pdf?src-supplier=Avnet+Europe; ComponentLink8URL: https://datasheet.ciiva.com/3304/bss138-3304424.pdf?src-supplier=Avnet; ComponentLink8Description: https://datasheet.ciiva.com/3304/bss138-3304424.pdf?src-supplier=Avnet; ComponentLink9URL: https://datasheet.ciiva.com/22655/193736-22655240.pdf?src-supplier=Element14; ComponentLink9Description: https://datasheet.ciiva.com/22655/193736-22655240.pdf?src-supplier=Element14; Supplier Part Number 1: 512-BSS138
footprint SOT-23-3
pins: 1 G, 2 S, 3 D

## C0805C102K1RACTU
designator C?, comment 1000pF
MLCC, 1000 pF, - 10%, X7R, 100 V, 0805 [2012 Metric] RoHS Compliant: Yes; Manufacturer: KEMET; Manufacturer Part Number: C0805C102K1RACTU; Dielectric Material: Ceramic; Capacitance: 1nF; Voltage Rating: 100V; Supplier 1: Mouser; Supplier Part Number 1: 80-C0805C102K1R; RoHS: Yes; Category: Ceramic Capacitors; Stock 1: 40129; Pricing 1: 1=0.19000, 10=0.08200, 100=0.05400, 500=0.04300, 1000=0.03600, 4000=0.02000 (USD); Mount: Surface Mount,PCB; Case/Package: 0805; Number of Pins: 2; Case Code (Metric): 2012; Case Code (Imperial): 0805; Min Operating Temperature: -55°C; Max Operating Temperature: 125°C; Tolerance: 10%; Packaging: Tape and Reel; Voltage Rating (DC): 100V; Dielectric: X7R; Termination: SMD/SMT; Package Quantity: 1; Voltage: 100V; Length: 2mm; Height: 0.78mm; Width: 0.049inch; Thickness: 0.035inch; Depth: 1.25mm; Lead Pitch: 0.75mm; Radiation Hardening: No; REACH SVHC: No SVHC; ComponentLink1URL: https://datasheet.ciiva.com/26847/getdatasheetpartid-385636-26847782.pdf?src-supplier=Verical; ComponentLink1Description: https://datasheet.ciiva.com/26847/getdatasheetpartid-385636-26847782.pdf?src-supplier=Verical; ComponentLink2URL: https://datasheet.ciiva.com/5413/kem-c1002-x7r-smd-357932-5413784.pdf?src-supplier=Mouser; ComponentLink2Description: https://datasheet.ciiva.com/5413/kem-c1002-x7r-smd-357932-5413784.pdf?src-supplier=Mouser; ComponentLink3URL: https://datasheet.ciiva.com/14592/70095383-14592824.pdf?src-supplier=Allied+Electronics; ComponentLink3Description: https://datasheet.ciiva.com/14592/70095383-14592824.pdf?src-supplier=Allied+Electronics; ComponentLink4URL: https://datasheet.ciiva.com/7842/kem-c1002-x7r-smd-7842523.pdf?src-supplier=Element14; ComponentLink4Description: https://datasheet.ciiva.com/7842/kem-c1002-x7r-smd-7842523.pdf?src-supplier=Element14; ComponentLink5URL: https://datasheet.ciiva.com/14589/70095383-14589435.pdf?src-supplier=Allied+Electronics; ComponentLink5Description: https://datasheet.ciiva.com/14589/70095383-14589435.pdf?src-supplier=Allied+Electronics; ComponentLink6URL: https://datasheet.ciiva.com/7842/40889-7842157.pdf?src-supplier=Element14; ComponentLink6Description: https://datasheet.ciiva.com/7842/40889-7842157.pdf?src-supplier=Element14; ComponentLink7URL: https://datasheet.ciiva.com/5904/kem-c1002-x7r-smd-5904911.pdf?src-supplier=Farnell; ComponentLink7Description: https://datasheet.ciiva.com/5904/kem-c1002-x7r-smd-5904911.pdf?src-supplier=Farnell; ComponentLink8URL: https://datasheet.ciiva.com/22700/1851736-22700511.pdf?src-supplier=Element14; ComponentLink8Description: https://datasheet.ciiva.com/22700/1851736-22700511.pdf?src-supplier=Element14
footprint C0805
pins: 1, 2

## C0805C104K5RACTU
designator C?, comment 0.1uF
Cap Ceramic 0.1uF 50V X7R 10% SMD 2.0 x 1.2 mm 125 C Paper T/R; Manufacturer: KEMET; Manufacturer Part Number: C0805C104K5RACTU; Capacitance: 100nF; Voltage: 500V; Supplier 1: Mouser; Supplier Part Number 1: 80-C0805C104K5R; RoHS: Yes; Category: Ceramic Capacitors; Stock 1: 4177670; Pricing 1: 1=0.17000, 10=0.10400, 100=0.05600, 500=0.03900, 1000=0.03200, 4000=0.02400 (USD); Mount: Surface Mount,PCB; Case/Package: 0805; Number of Pins: 2; Case Code (Imperial): 0805; Case Code (Metric): 2012; Dielectric Material: Ceramic; Contact Plating: Tin,Matte; Min Operating Temperature: -55°C; Max Operating Temperature: 125°C; Voltage Rating: 50V; Tolerance: 10%; Packaging: Tape and Reel; Dielectric: X7R; Package Quantity: 4000; Voltage Rating (DC): 50V; Termination: SMD/SMT; Length: 2mm; Height: 0.9mm; Width: 1.2mm; Depth: 1.25mm; Thickness: 0.035inch; Lead Pitch: 0.75mm; Radiation Hardening: No; REACH SVHC: No SVHC; ComponentLink1URL: https://datasheet.ciiva.com/14589/70095383-14589048.pdf?src-supplier=Allied+Electronics; ComponentLink1Description: https://datasheet.ciiva.com/14589/70095383-14589048.pdf?src-supplier=Allied+Electronics; ComponentLink2URL: https://datasheet.ciiva.com/28682/1851736-28682232.pdf?src-supplier=Element14; ComponentLink2Description: https://datasheet.ciiva.com/28682/1851736-28682232.pdf?src-supplier=Element14; ComponentLink3URL: https://datasheet.ciiva.com/32431/slceramic-chip-condensers-e-32431755.pdf?src-supplier=Distrelec; ComponentLink3Description: https://datasheet.ciiva.com/32431/slceramic-chip-condensers-e-32431755.pdf?src-supplier=Distrelec; ComponentLink4URL: https://datasheet.ciiva.com/18410/70095383-18410815.pdf?src-supplier=Allied+Electronics; ComponentLink4Description: https://datasheet.ciiva.com/18410/70095383-18410815.pdf?src-supplier=Allied+Electronics
footprint C0805
pins: 1, 2

## C0805C223K5RAC
designator C?, comment 22nF 50V
KEMET 22nF Multilayer Ceramic Capacitor (MLCC) 50V dc 10% X7R dielectric max op. temp. 125C; Manufacturer Part Number: C0805C223K5RAC; Dissipation Factor: 2.5%; Supplier 1: Mouser; Supplier Part Number 1: 80-C0805C223K5RAC; Manufacturer: KEMET; RoHS: Yes; Category: Ceramic Capacitors; Stock 1: 100569; Pricing 1: 1=0.10000, 10=0.04800, 100=0.02400, 500=0.01900, 1000=0.01500, 4000=0.01000 (USD); Mount: Surface Mount; Case/Package: 0805; Dielectric Material: Ceramic; Case Code (Imperial): 0805; Case Code (Metric): 2012; Min Operating Temperature: -55°C; Max Operating Temperature: 125°C; Tolerance: 10%; Capacitance: 22nF; Dielectric: X7R; Packaging: Tape and Reel; Voltage Rating (DC): 50V; Termination: SMD/SMT; Package Quantity: 4000; Voltage Rating: 50V; Voltage: 50V; Length: 2mm; Height: 0.78mm; Depth: 1.25mm; Width: 1.2mm; Lead Pitch: 0.75mm; ComponentLink1URL: https://datasheet.ciiva.com/13384/kem-c1002-x7r-smd-357932-13384791.pdf?src-supplier=Mouser; ComponentLink1Description: https://datasheet.ciiva.com/13384/kem-c1002-x7r-smd-357932-13384791.pdf?src-supplier=Mouser; ComponentLink2URL: https://datasheet.ciiva.com/14116/slceramic-chip-condensers-e-14116587.pdf?src-supplier=Distrelec; ComponentLink2Description: https://datasheet.ciiva.com/14116/slceramic-chip-condensers-e-14116587.pdf?src-supplier=Distrelec
footprint C0805
pins: 1, 2

## CC0805KRX7R9BB103
designator C?, comment 10nF
YAGEO - CC0805KRX7R9BB103 - SMD Multilayer Ceramic Capacitor, 10000 pF, 50 V, 0805 [2012 Metric], ± 10%, X7R, CC Series; Voltage Rating: 50V; Insulation Resistance: 100GR; Supplier 1: Mouser; Supplier Part Number 1: 603-CC805KRX7R9BB103; Manufacturer: Yageo; Manufacturer Part Number: CC0805KRX7R9BB103; RoHS: Yes; Category: Ceramic Capacitors; Stock 1: 473100; Pricing 1: 1=0.11000, 10=0.05700, 100=0.02600, 1000=0.02100, 4000=0.01600, 8000=0.01400 (USD); Mount: Surface Mount; Case/Package: 0805; Number of Pins: 2; Case Code (Imperial): 0805; Case Code (Metric): 2012; Material: Ceramic; Min Operating Temperature: -55°C; Max Operating Temperature: 125°C; Packaging: Tape and Reel; Capacitance: 10nF; Tolerance: 10%; Package Quantity: 1; Dielectric: X7R; Termination: SMD/SMT; Voltage Rating (DC): 50V; Voltage: 50V; Composition: Ceramic; Length: 2mm; Height: 0.6mm; Width: 1.25mm; Depth: 1.25mm; Thickness: 0.024inch; Radiation Hardening: No; REACH SVHC: No SVHC; Lead Free: Lead Free; Halogen Free: Halogen Free; ComponentLink1URL: https://datasheet.ciiva.com/11786/0900766b80d84f1d-11786119.pdf?src-supplier=RSComponents; ComponentLink1Description: https://datasheet.ciiva.com/11786/0900766b80d84f1d-11786119.pdf?src-supplier=RSComponents; ComponentLink2URL: https://datasheet.ciiva.com/25613/0900766b8027bcf6-25613113.pdf?src-supplier=RSComponents; ComponentLink2Description: https://datasheet.ciiva.com/25613/0900766b8027bcf6-25613113.pdf?src-supplier=RSComponents; ComponentLink3URL: https://datasheet.ciiva.com/144/mlccorderingcode-144533.pdf?src-supplier=Digi-Key; ComponentLink3Description: https://datasheet.ciiva.com/144/mlccorderingcode-144533.pdf?src-supplier=Digi-Key; ComponentLink4URL: https://datasheet.ciiva.com/144/mlccorderingcode-144534.pdf?src-supplier=Digi-Key; ComponentLink4Description: https://datasheet.ciiva.com/144/mlccorderingcode-144534.pdf?src-supplier=Digi-Key; ComponentLink5URL: https://datasheet.ciiva.com/46372/1784427-46372638.pdf?src-supplier=Element14; ComponentLink5Description: https://datasheet.ciiva.com/46372/1784427-46372638.pdf?src-supplier=Element14; ComponentLink6URL: https://datasheet.ciiva.com/144/mlccorderingcode-144532.pdf?src-supplier=Digi-Key; ComponentLink6Description: https://datasheet.ciiva.com/144/mlccorderingcode-144532.pdf?src-supplier=Digi-Key; ComponentLink7URL: https://datasheet.ciiva.com/16625/upy-gphc-x7r-6-3v-to-50v-8-16625548.pdf?src-supplier=Avnet+Europe; ComponentLink7Description: https://datasheet.ciiva.com/16625/upy-gphc-x7r-6-3v-to-50v-8-16625548.pdf?src-supplier=Avnet+Europe; ComponentLink8URL: https://datasheet.ciiva.com/22749/1489800-22749215.pdf?src-supplier=Element14; ComponentLink8Description: https://datasheet.ciiva.com/22749/1489800-22749215.pdf?src-supplier=Element14; ComponentLink9URL: https://datasheet.ciiva.com/46372/1734573-46372639.pdf?src-supplier=Element14; ComponentLink9Description: https://datasheet.ciiva.com/46372/1734573-46372639.pdf?src-supplier=Element14
footprint C0805
pins: 1, 2

## CMP-0045-00476-1
designator U?, comment DSPIC33FJ128MC804-I/PT
MICROCHIP         DSPIC33FJ128MC804-I/PT            DSC, 16BIT, 128K FLASH, 40MIPS, 44TQFP; Frequency: 40MHz; Interface: I2C,SPI,CAN,IrDA,UART,USART,LIN; Max Supply Voltage: 3.6V; Min Supply Voltage: 3V; Operating Supply Voltage: 3.3V; RAM Size: 16KB; Number of Timers/Counters: 5; Number of I/Os: 35; Density: 128KB; Data Bus Width: 16b; Oscillator Type: Internal; Peripherals: PWM,I2C,Brown-out Detect/Reset,POR,WDT,DMA; Core Architecture: dsPIC; Number of UART Channels: 2; Number of I2C Channels: 1; Watchdog Timer: Yes; PackageReference: TQFP-PT44; PackageDescription: 44-Lead Plastic Thin Quad Flatpack (PT) - 10x10x1mm Body, 2.00mm [TQFP]; PackageVersion: revBB, Aug-2009; DatasheetVersion: revD, Nov-2009; Code_JEDEC: MS-026; Supplier 1: Mouser; Supplier Part Number 1: 579-DSPIC128MC804IPT; Manufacturer: Microchip; Manufacturer Part Number: DSPIC33FJ128MC804-I/PT; RoHS: Yes; Category: DSPs - Digital Signal Processors; Stock 1: 198; Pricing 1: 1=5.82000, 10=5.82000, 25=5.34000, 100=4.83000, 250=4.83000, 500=4.83000 (USD); Mount: Surface Mount; Case/Package: TQFP; Number of Pins: 44; Min Operating Temperature: -40°C; Max Operating Temperature: 85°C; Packaging: Rail/Tube; Number of Programmable I/O: 35; Max Frequency: 40MHz; Memory Type: FLASH; Memory Size: 128KB; Number of SPI Channels: 2; Package Quantity: 160; Termination: SMD/SMT; Length: 10mm; Height: 1mm; Width: 10mm; Radiation Hardening: No; REACH SVHC: No SVHC; Lead Free: Lead Free; ComponentLink1URL: https://datasheet.ciiva.com/5755/1669426-5755655.pdf?src-supplier=Farnell; ComponentLink1Description: https://datasheet.ciiva.com/5755/1669426-5755655.pdf?src-supplier=Farnell; ComponentLink2URL: https://datasheet.ciiva.com/16361/filehandler-aspxddocname-en534607-16361895.pdf?src-supplier=Future+Electronics; ComponentLink2Description: https://datasheet.ciiva.com/16361/filehandler-aspxddocname-en534607-16361895.pdf?src-supplier=Future+Electronics; ComponentLink3URL: https://datasheet.ciiva.com/1149/1669426-1149640.pdf?src-supplier=Element14; ComponentLink3Description: https://datasheet.ciiva.com/1149/1669426-1149640.pdf?src-supplier=Element14; ComponentLink4URL: https://datasheet.ciiva.com/1495/70292g-1495385.pdf?src-supplier=Digi-Key; ComponentLink4Description: https://datasheet.ciiva.com/1495/70292g-1495385.pdf?src-supplier=Digi-Key; ComponentLink5URL: https://datasheet.ciiva.com/3204/70291e-3204315.pdf?src-supplier=Avnet; ComponentLink5Description: https://datasheet.ciiva.com/3204/70291e-3204315.pdf?src-supplier=Avnet
footprint TQFP-PT44_M (Thin QFP, 44-Leads, Body 10x10mm, Pitch 0.8mm, IPC Low Density)
footprint TQFP-PT44_N (Thin QFP, 44-Leads, Body 10x10mm, Pitch 0.8mm, IPC Medium Density)
footprint TQFP-PT44_L (Thin QFP, 44-Leads, Body 10x10mm, Pitch 0.8mm, IPC High Density)
pins: 1 SDA1/RP9/CN21/PMD3/RB9 (io), 2 PWM2H1/RP22/CN18/PMA1/RC6 (io), 3 PWM2L1/RP23/CN17/PMA0/RC7 (io), 4 RP24/CN20/PMA5/RC8 (io), 5 RP25/CN19/PMA6/RC9 (io), 6 VSS (power), 7 VCAP/VDDCORE (power), 8 PGD2/EMCD2/PWM1H3/RP10/CN16/PMD2/RB10 (io), 9 PGC2/EMUC2/PWM1L3/RP11/CN15/PMD1/RB11 (io), 10 PWM1H2/DAC1RP/RP12/CN14/PMD0/RB12 (io), 11 PWM1L2/DAC1RN/RP13/CN13/PMRD/RB13 (io), 12 TMS/PMA10/RA10 (io), 13 TCK/PMA7/RA7 (io), 14 PWM1H1/DAC1LP/RTCC/RP14/CN12/PMWR/RB14 (io), 15 PWM1L1/DAC1LN/RP15/CN11/PMCS1/RB15 (io), 16 AVSS (power), 17 AVDD (power), 18 ~{MCLR} (in), 19 AN0/VREF+/CN2/RA0 (io), 20 AN1/VREF-/CN3/RA1 (io), 21 PGD1/EMUD1/AN2/C2IN-/RP0/CN4/RB0 (io), 22 PGC1/EMUC1/AN3/C2IN+/RP1/CN5/RB1 (io), 23 AN4/C1IN-/RP2/CN6/RB2 (io), 24 AN5/C1IN+/RP3/CN7/RB3 (io), 25 AN6/DAC1RM/RP16/CN8/RC0 (io), 26 AN7/DAC1LM/RP17/CN9/RC1 (io), 27 AN8/CVREF/RP18/PMA2/CN10/RC2 (io), 28 VDD (power), 29 VSS (power), 30 OSC1/CLKI/CN30/RA2 (io), 31 OSC2/CLKO/CN29/RA3 (io), 32 TDO/PMA8/RA8 (io), 33 SOSCI/RP4/CN1/RB4 (io), 34 SOSCO/T1CK/CN0/RA4 (io), 35 TDI/PMA9/RA9 (io), 36 RP19/CN28/PMBE/RC3 (io), 37 RP20/CN25/PMA4/RC4 (io), 38 RP21/CN26/PMA3/RC5 (io), 39 VSS (power), 40 VDD (power), 41 PGD3/EMUD3/ASDA1/RP5/CN27/PMD7/RB5 (io), 42 PGC3/EMUC3/ASCL1/RP6/CN24/PMD6/RB6 (io), 43 INT0/RP7/CN23/PMD5/RB7 (io), 44 SCL1/RP8/CN22/PMD4/RB8 (io)